# Altium schematic symbol library INA219AIDR.SchLib: 1 symbol
Pins are listed as number, name and electrical type; pins without a type are passive.

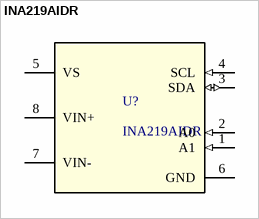
[diagram p0: symbol INA219AIDR]

## INA219AIDR
designator U?
26-V 12-bit I2C output digital power monitor 8-SOIC -40 to 125; Manufacturer_Name: Texas Instruments; PartNumber: INA219BIDR; Alternate_PartNumber: INA219BID; CompType: IC; TYPE: TYPE; RefDes: RefDes; Copyright: Copyright (C) 2026 Ultra Librarian. All rights reserved.; Manufacturer_Part_Number: INA219AIDR; PackageReference: D0008A; MountType: SMT; RoHS: Y; Manufacturer: Texas Instruments
footprint D0008A_N
pins: 1 A1 (in), 2 A0 (in), 3 SDA (io), 4 SCL (in), 5 VS (power), 6 GND (power), 7 VIN- (power), 8 VIN+ (power)